# Altium footprint library KN2CLib.PcbLib: 118 footprints (part 8 of 8)
Each footprint in its own frame and in the unit in brackets; x right, y up, seen from the top. Pads: shape width x height; smd on the part's side, far side on the other; paste and mask are expansions set on the pad; w line width, h text height; cw(c..) or ccw(c..) is an arc to the next point about the centre after c.
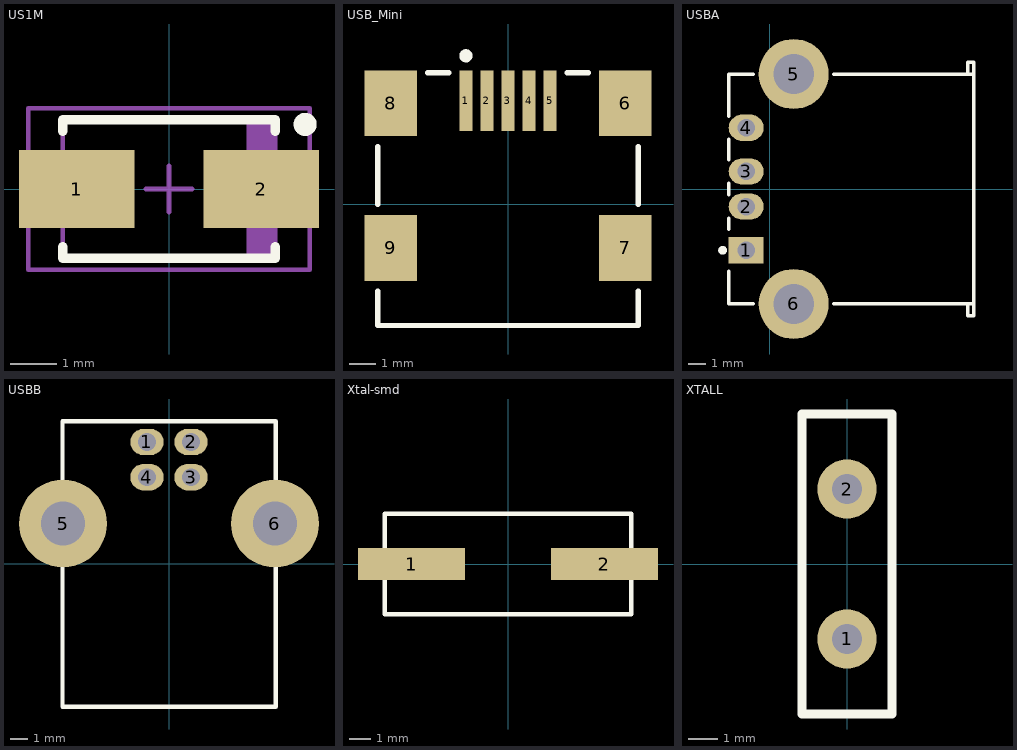
[diagram p7: the footprints below, top view; thin cyan lines are the x and y axes]

## US1M [mm] "Molded Diode, 2-Leads, Body 4.3x2.6mm, IPC Medium Density"
height 2.3
pads (2):
  rect 2.5x1.7 smd: 1(-2,0) 2(2,0)
Top Overlay:
  circle w0.25: c2.95,1.4 r0.125
  lines w0.2: -2.3,-1.25 -2.3,-1.5 2.3,-1.5 2.3,-1.25 ; -2.3,1.25 -2.3,1.5 2.3,1.5 2.3,1.25
Mechanical 13:
  rectangle: 1.681,-1.46 2.3,1.46
  lines w0.1: -2.3,-1.46 -2.3,1.46 2.3,1.46 2.3,-1.46 -2.3,-1.46
Mechanical 15:
  lines w0.1: -0.5,0 0.5,0 ; 0,-0.5 0,0.5 ; -3.05,-1.75 -3.05,1.75 3.05,1.75 3.05,-1.75 -3.05,-1.75
3D body: height 2.3, standoff 0, extent -2.3,-1.46 2.3,1.46

## USB_Mini [mm]
pads (9):
  rect 0.5x2.3 smd: 1(-1.6,3.95) 2(-0.8,3.95) 3(0,3.95) 4(0.8,3.95) 5(1.6,3.95)
  rect 2x2.5 smd: 6(4.45,3.85) 7(4.45,-1.65) 8(-4.45,3.85) 9(-4.45,-1.65)
Top Overlay:
  circle w0.25: c-1.6,5.65 r0.125
  lines w0.2: -4.95,-3.3 -4.95,-4.6 4.95,-4.6 4.95,-3.3 ; -4.95,0 -4.95,2.2 ; -3.05,5 -2.25,5 ; 2.25,5 3.05,5 ; 4.95,0 4.95,2.2

## USBA [mm] "Connector; USB1.1, Type A, Thru-Hole; 4 Position; Right Angle"
height 7.01
pads (6):
  rect 2x1.5 hole 1: 1(-1.355,-3.5)
  oval 2x1.5 hole 1: 2(-1.355,-1) 3(-1.355,1) 4(-1.355,3.5)
  round 4 hole 2.3: 5(1.355,6.57) 6(1.355,-6.57)
Top Overlay:
  circle w0.25: c-2.705,-3.5 r0.125
  lines w0.2: -2.365,-4.7 -2.365,-6.565 -0.945,-6.565 ; -2.365,-2.3 -2.365,-1.66 ; -2.365,-0.34 -2.365,0.34 ; -2.365,1.66 -2.365,2.84 ; -2.365,4.16 -2.365,6.565 -0.945,6.565 ; 3.655,-6.565 11.635,-6.565 ; 3.655,6.565 11.635,6.565 ; 11.315,-6.565 11.315,-7.25 11.635,-7.25 11.635,-6.565 ; 11.315,6.565 11.315,7.25 11.635,7.25 11.635,6.565 ; 11.635,-6.565 11.635,6.565

## USBB [mm]
pads (6):
  oval 1.9x1.5 hole 1: 1(-1.25,6.93) 2(1.25,6.93) 3(1.25,4.93) 4(-1.25,4.93)
  round 5 hole 2.5: 5(-6.02,2.3) 6(6.02,2.3)
Top Overlay:
  lines w0.254: -6.05,-8.1 6.05,-8.1 6.05,8.1 -6.05,8.1 -6.05,-8.1

## Xtal-smd [mm]
pads (2):
  rect 5x1.5 smd: 1(-4.5,0) 2(4.5,0)
Top Overlay:
  lines w0.203: -5.75,-2.35 -5.75,2.35 5.75,2.35 5.75,-2.35 -5.75,-2.35

## XTALL [mm]
pads (2):
  round 2 hole 1: 1(0,-2.54) 2(0,2.54)
Top Overlay:
  lines w0.305: -1.524,-5.08 1.524,-5.08 1.524,5.08 -1.524,5.08 -1.524,-5.08